# Altium footprint library LQFP.PcbLib: 57 footprints (part 1 of 4)
Each footprint in its own frame and in the unit in brackets; x right, y up, seen from the top. Pads: shape width x height; smd on the part's side, far side on the other; paste and mask are expansions set on the pad; w line width, h text height; cw(c..) or ccw(c..) is an arc to the next point about the centre after c.
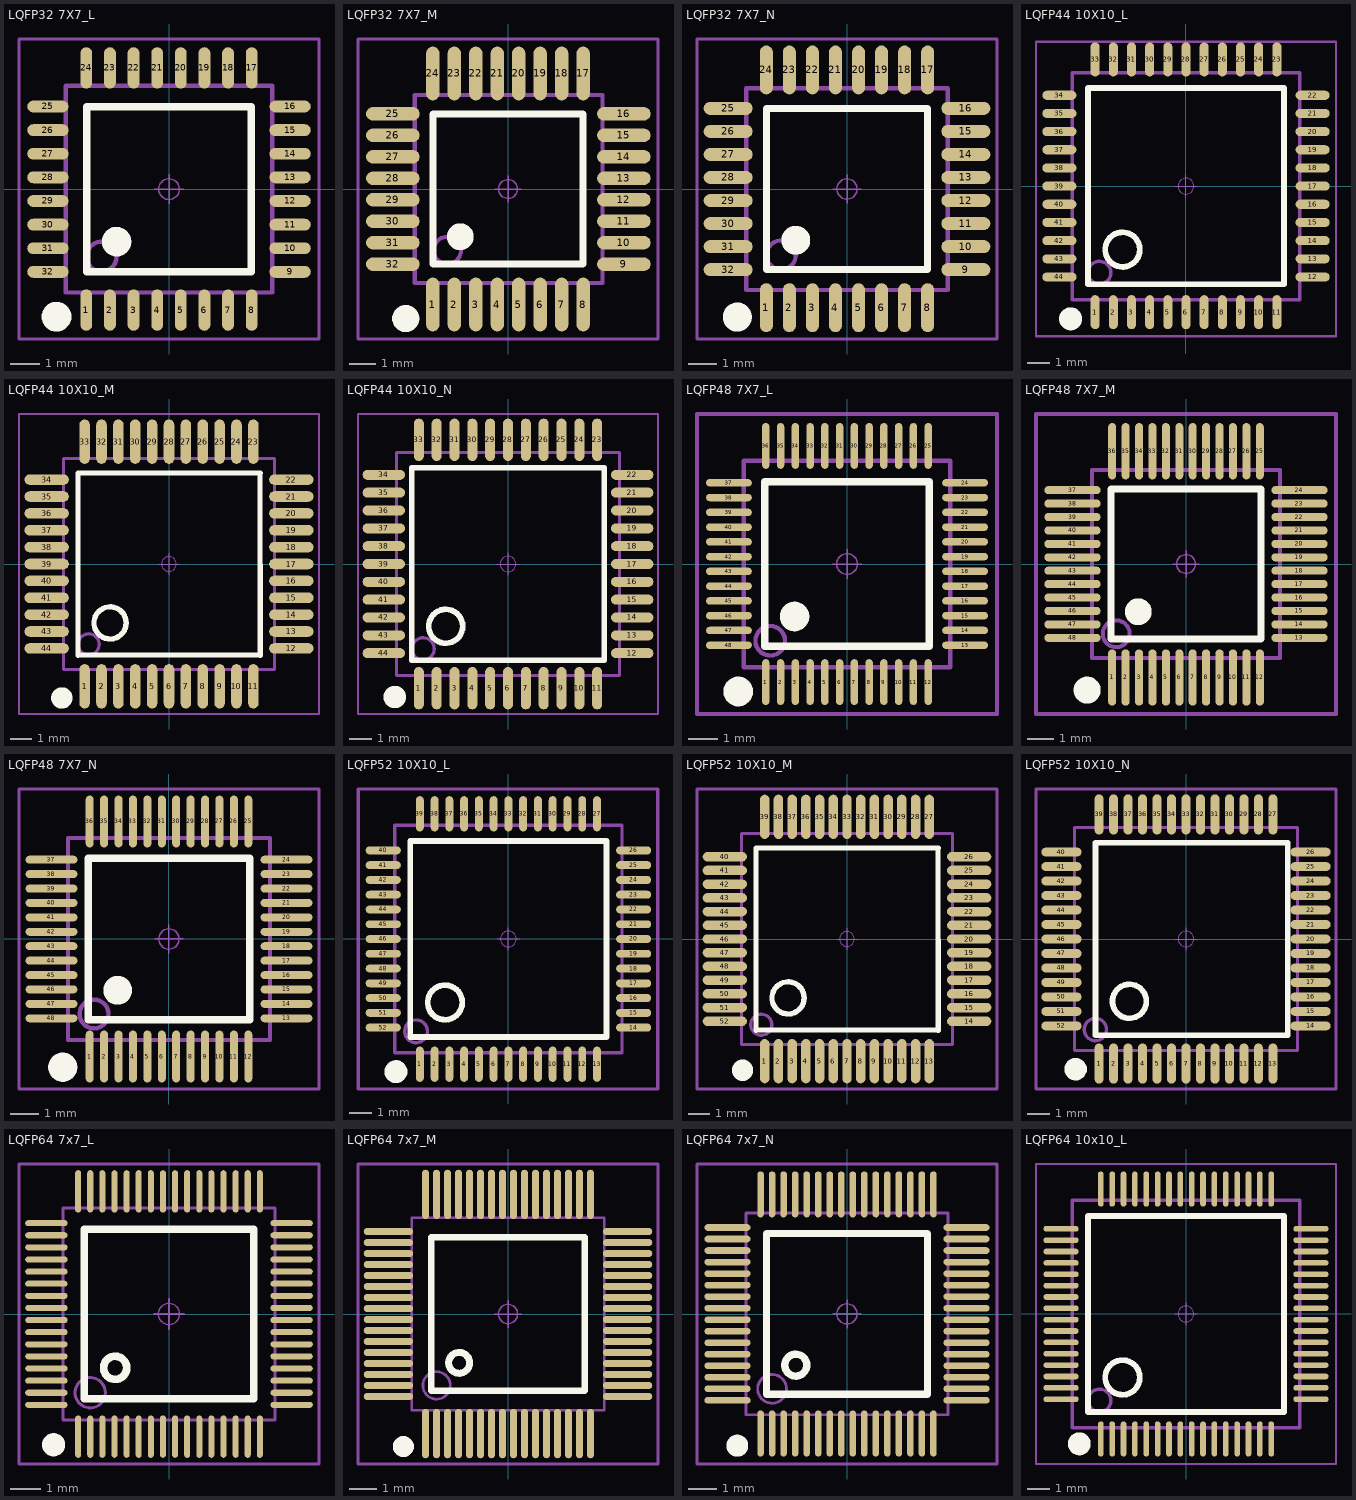
[diagram p0: the footprints below, top view; thin cyan lines are the x and y axes]

## LQFP32 7X7_L [mm] "32脚，体宽7x7mm，脚距0.8mm"
pads (32):
  oval 0.4x1.4 smd: 1(-2.8,-4.096) 2(-2,-4.096) 3(-1.2,-4.096) 4(-0.4,-4.096) 5(0.4,-4.096) 6(1.2,-4.096) 7(2,-4.096) 8(2.8,-4.096) 17(2.8,4.108) 18(2,4.108) 19(1.2,4.108) 20(0.4,4.108) 21(-0.4,4.108) 22(-1.2,4.108) 23(-2,4.108) 24(-2.8,4.108)
  oval 1.4x0.4 smd: 9(4.102,-2.8) 10(4.102,-2) 11(4.102,-1.2) 12(4.102,-0.4) 13(4.102,0.4) 14(4.102,1.2) 15(4.102,2) 16(4.102,2.8) 25(-4.102,2.8) 26(-4.102,2) 27(-4.102,1.2) 28(-4.102,0.4) 29(-4.102,-0.4) 30(-4.102,-1.2) 31(-4.102,-2) 32(-4.102,-2.8)
Top Overlay:
  circle w0.5: c-1.778,-1.778 r0.25
  circle w0.508: c-3.81,-4.318 r0.25
  lines w0.254: -2.794,-2.794 2.794,-2.794 2.794,2.794 -2.794,2.794 -2.794,-2.794
Mechanical 13:
  circle w0.15: c-2.286,-2.286 r0.508
  lines w0.15: -3.5,-3.5 -3.5,3.5 3.5,3.5 3.5,-3.5 -3.5,-3.5
Mechanical 15:
  circle w0.05: c0,0 r0.35
  lines w0.05: -0.5,0 0.5,0 ; 0,-0.5 0,0.5
  lines w0.1: -5.08,-5.074 -5.08,5.086 5.08,5.086 5.08,-5.074 -5.08,-5.074
3D body: height 1.45, standoff 0, extent -4.503,-4.503 4.503,4.503

## LQFP32 7X7_M [mm] "32脚，体宽7x7mm，脚距0.8mm"
pads (32):
  oval 0.5x2 smd: 1(-2.8,-4.303) 2(-2,-4.303) 3(-1.2,-4.303) 4(-0.4,-4.303) 5(0.4,-4.303) 6(1.2,-4.303) 7(2,-4.303) 8(2.8,-4.303) 17(2.8,4.303) 18(2,4.303) 19(1.2,4.303) 20(0.4,4.303) 21(-0.4,4.303) 22(-1.2,4.303) 23(-2,4.303) 24(-2.8,4.303)
  oval 2x0.5 smd: 9(4.317,-2.8) 10(4.317,-2) 11(4.317,-1.2) 12(4.317,-0.4) 13(4.317,0.4) 14(4.317,1.2) 15(4.317,2) 16(4.317,2.8) 25(-4.289,2.8) 26(-4.289,2) 27(-4.289,1.2) 28(-4.289,0.4) 29(-4.289,-0.4) 30(-4.289,-1.2) 31(-4.289,-2) 32(-4.289,-2.8)
Top Overlay:
  circle w0.5: c-1.778,-1.778 r0.25
  circle w0.508: c-3.81,-4.826 r0.25
  lines w0.254: -2.794,-2.794 2.794,-2.794 2.794,2.794 -2.794,2.794 -2.794,-2.794
Mechanical 13:
  circle w0.15: c-2.26,-2.286 r0.508
  lines w0.15: -3.474,-3.5 3.526,-3.5 3.526,3.5 -3.474,3.5 -3.474,-3.5
Mechanical 15:
  circle w0.05: c0,0 r0.35
  lines w0.05: -0.5,0 0.5,0 ; 0,-0.5 0,0.5
  lines w0.1: -5.588,-5.588 5.588,-5.588 5.588,5.588 -5.588,5.588 -5.588,-5.588
3D body: height 1.45, standoff 0, extent -4.503,-4.503 4.503,4.503

## LQFP32 7X7_N [mm] "32脚，体宽7x7mm，脚距0.8mm"
pads (32):
  oval 0.45x1.7 smd: 1(-2.8,-4.12) 2(-2,-4.12) 3(-1.2,-4.12) 4(-0.4,-4.12) 5(0.4,-4.12) 6(1.2,-4.12) 7(2,-4.12) 8(2.8,-4.12) 17(2.8,4.132) 18(2,4.132) 19(1.2,4.132) 20(0.4,4.132) 21(-0.4,4.132) 22(-1.2,4.132) 23(-2,4.132) 24(-2.8,4.132)
  oval 1.7x0.45 smd: 9(4.126,-2.8) 10(4.126,-2) 11(4.126,-1.2) 12(4.126,-0.4) 13(4.126,0.4) 14(4.126,1.2) 15(4.126,2) 16(4.126,2.8) 25(-4.126,2.8) 26(-4.126,2) 27(-4.126,1.2) 28(-4.126,0.4) 29(-4.126,-0.4) 30(-4.126,-1.2) 31(-4.126,-2) 32(-4.126,-2.8)
Top Overlay:
  circle w0.5: c-1.778,-1.778 r0.25
  circle w0.508: c-3.81,-4.445 r0.25
  lines w0.254: -2.794,-2.794 2.794,-2.794 2.794,2.794 -2.794,2.794 -2.794,-2.794
Mechanical 13:
  circle w0.15: c-2.286,-2.292 r0.508
  lines w0.15: -3.5,-3.506 -3.5,3.494 3.5,3.494 3.5,-3.506 -3.5,-3.506
Mechanical 15:
  circle w0.05: c0,0 r0.35
  lines w0.05: -0.5,0 0.5,0 ; 0,-0.5 0,0.5
  lines w0.1: -5.207,-5.207 -5.207,5.207 5.207,5.207 5.207,-5.207 -5.207,-5.207
3D body: height 1.45, standoff 0, extent -4.503,-4.503 4.503,4.503

## LQFP44 10X10_L [mm] "44脚，体宽10x10mm，脚距0.8mm"
pads (44):
  oval 0.4x1.5 smd: 1(-4,-5.551) 2(-3.2,-5.551) 3(-2.4,-5.551) 4(-1.6,-5.551) 5(-0.8,-5.551) 6(0,-5.551) 7(0.8,-5.551) 8(1.6,-5.551) 9(2.4,-5.551) 10(3.2,-5.551) 11(4,-5.551) 23(4,5.578) 24(3.2,5.578) 25(2.4,5.578) 26(1.6,5.578) 27(0.8,5.578) 28(0,5.578) 29(-0.8,5.578) 30(-1.6,5.578) 31(-2.4,5.578) 32(-3.2,5.578) 33(-4,5.578)
  oval 1.5x0.4 smd: 12(5.575,-4) 13(5.575,-3.2) 14(5.575,-2.4) 15(5.575,-1.6) 16(5.575,-0.8) 17(5.575,0) 18(5.575,0.8) 19(5.575,1.6) 20(5.575,2.4) 21(5.575,3.2) 22(5.575,4) 34(-5.575,4) 35(-5.575,3.2) 36(-5.575,2.4) 37(-5.575,1.6) 38(-5.575,0.8) 39(-5.575,0) 40(-5.575,-0.8) 41(-5.575,-1.6) 42(-5.575,-2.4) 43(-5.575,-3.2) 44(-5.575,-4)
Top Overlay:
  circle w0.254: c-2.794,-2.794 r0.762
  circle w0.508: c-5.08,-5.842 r0.25
  lines w0.254: -4.318,-4.318 -4.318,4.318 4.318,4.318 4.318,-4.318 -4.318,-4.318
Mechanical 13:
  circle w0.15: c-3.81,-3.81 r0.5
  lines w0.15: -5,-5 -5,5 5,5 5,-5 -5,-5
Mechanical 15:
  circle w0.05: c0,0 r0.35
  lines w0.05: -0.5,0 0.5,0 ; 0,-0.5 0,0.5
  lines w0.1: -6.604,-6.604 6.604,-6.604 6.604,6.35 -6.604,6.35 -6.604,-6.604
3D body: height 1.45, standoff 0, extent -6.003,-6.003 6.003,6.003

## LQFP44 10X10_M [mm] "44脚，体宽10x10mm，脚距0.8mm"
pads (44):
  oval 0.5x2.1 smd: 1(-4,-5.8) 2(-3.2,-5.8) 3(-2.4,-5.8) 4(-1.6,-5.8) 5(-0.8,-5.8) 6(0,-5.8) 7(0.8,-5.8) 8(1.6,-5.8) 9(2.4,-5.8) 10(3.2,-5.8) 11(4,-5.8) 23(4,5.8) 24(3.2,5.8) 25(2.4,5.8) 26(1.6,5.8) 27(0.8,5.8) 28(0,5.8) 29(-0.8,5.8) 30(-1.6,5.8) 31(-2.4,5.8) 32(-3.2,5.8) 33(-4,5.8)
  oval 2.1x0.5 smd: 12(5.8,-4) 13(5.8,-3.2) 14(5.8,-2.4) 15(5.8,-1.6) 16(5.8,-0.8) 17(5.8,0) 18(5.8,0.8) 19(5.8,1.6) 20(5.8,2.4) 21(5.8,3.2) 22(5.8,4) 34(-5.8,4) 35(-5.8,3.2) 36(-5.8,2.4) 37(-5.8,1.6) 38(-5.8,0.8) 39(-5.8,0) 40(-5.8,-0.8) 41(-5.8,-1.6) 42(-5.8,-2.4) 43(-5.8,-3.2) 44(-5.8,-4)
Top Overlay:
  circle w0.254: c-2.794,-2.794 r0.762
  circle w0.508: c-5.08,-6.35 r0.25
  lines w0.254: -4.318,-4.318 4.318,-4.318 4.318,4.318 -4.318,4.318 -4.318,-4.318
Mechanical 13:
  circle w0.15: c-3.81,-3.81 r0.5
  lines w0.15: -5,-5 5,-5 5,5 -5,5 -5,-5
Mechanical 15:
  circle w0.05: c0,0 r0.35
  lines w0.05: -0.5,0 0.5,0 ; 0,-0.5 0,0.5
  lines w0.1: -7.112,-7.112 7.112,-7.112 7.112,7.112 -7.112,7.112 -7.112,-7.112
3D body: height 1.45, standoff 0, extent -6.003,-6.003 6.003,6.003

## LQFP44 10X10_N [mm] "44脚，体宽10x10mm，脚距0.8mm"
pads (44):
  oval 0.45x1.9 smd: 1(-4,-5.575) 2(-3.2,-5.575) 3(-2.4,-5.575) 4(-1.6,-5.575) 5(-0.8,-5.575) 6(0,-5.575) 7(0.8,-5.575) 8(1.6,-5.575) 9(2.4,-5.575) 10(3.2,-5.575) 11(4,-5.575) 23(4,5.575) 24(3.2,5.575) 25(2.4,5.575) 26(1.6,5.575) 27(0.8,5.575) 28(0,5.575) 29(-0.8,5.575) 30(-1.6,5.575) 31(-2.4,5.575) 32(-3.2,5.575) 33(-4,5.575)
  oval 1.9x0.45 smd: 12(5.575,-4) 13(5.575,-3.2) 14(5.575,-2.4) 15(5.575,-1.6) 16(5.575,-0.8) 17(5.575,0) 18(5.575,0.8) 19(5.575,1.6) 20(5.575,2.4) 21(5.575,3.2) 22(5.575,4) 34(-5.575,4) 35(-5.575,3.2) 36(-5.575,2.4) 37(-5.575,1.6) 38(-5.575,0.8) 39(-5.575,0) 40(-5.575,-0.8) 41(-5.575,-1.6) 42(-5.575,-2.4) 43(-5.575,-3.2) 44(-5.575,-4)
Top Overlay:
  circle w0.254: c-2.794,-2.794 r0.762
  circle w0.508: c-5.08,-5.969 r0.25
  lines w0.254: -4.318,-4.318 -4.318,4.318 4.318,4.318 4.318,-4.318 -4.318,-4.318
Mechanical 13:
  circle w0.15: c-3.81,-3.81 r0.5
  lines w0.15: -5,-5 5,-5 5,5 -5,5 -5,-5
Mechanical 15:
  circle w0.05: c0,0 r0.35
  lines w0.05: -0.5,0 0.5,0 ; 0,-0.5 0,0.5
  lines w0.1: -6.731,-6.731 6.731,-6.731 6.731,6.731 -6.731,6.731 -6.731,-6.731
3D body: height 1.45, standoff 0, extent -6.003,-6.003 6.003,6.003

## LQFP48 7X7_L [mm] "48脚，体宽7x7mm，脚距0.5mm"
height 1.6
pads (48):
  oval 0.25x1.55 smd: 1(-2.75,-4) 2(-2.25,-4) 3(-1.75,-4) 4(-1.25,-4) 5(-0.75,-4) 6(-0.25,-4) 7(0.25,-4) 8(0.75,-4) 9(1.25,-4) 10(1.75,-4) 11(2.25,-4) 12(2.75,-4) 25(2.75,4) 26(2.25,4) 27(1.75,4) 28(1.25,4) 29(0.75,4) 30(0.25,4) 31(-0.25,4) 32(-0.75,4) 33(-1.25,4) 34(-1.75,4) 35(-2.25,4) 36(-2.75,4)
  oval 1.55x0.25 smd: 13(4,-2.75) 14(4,-2.25) 15(4,-1.75) 16(4,-1.25) 17(4,-0.75) 18(4,-0.25) 19(4,0.25) 20(4,0.75) 21(4,1.25) 22(4,1.75) 23(4,2.25) 24(4,2.75) 37(-4,2.75) 38(-4,2.25) 39(-4,1.75) 40(-4,1.25) 41(-4,0.75) 42(-4,0.25) 43(-4,-0.25) 44(-4,-0.75) 45(-4,-1.25) 46(-4,-1.75) 47(-4,-2.25) 48(-4,-2.75)
Top Overlay:
  circle w0.508: c-3.683,-4.318 r0.25
  circle w0.5: c-1.778,-1.778 r0.25
  lines w0.254: -2.794,-2.794 -2.794,2.794 2.794,2.794 2.794,-2.794 -2.794,-2.794
Mechanical 13:
  circle w0.15: c-2.6,-2.6 r0.5
  lines w0.15: -3.5,-3.5 -3.5,3.5 3.5,3.5 3.5,-3.5 -3.5,-3.5
Mechanical 15:
  circle w0.05: c0,0 r0.35
  lines w0.05: -0.5,0 0.5,0 ; 0,-0.5 0,0.5
  lines w0.15: -5.08,-5.08 -5.08,5.08 5.08,5.08 5.08,-5.08 -5.08,-5.08
3D body: height 1.45, standoff 0, extent -4.503,-4.503 4.503,4.503

## LQFP48 7X7_M [mm] "48脚，体宽7x7mm，脚距0.5mm"
height 1.6
pads (48):
  oval 0.3x2.1 smd: 1(-2.75,-4.227) 2(-2.25,-4.227) 3(-1.75,-4.227) 4(-1.25,-4.227) 5(-0.75,-4.227) 6(-0.25,-4.227) 7(0.25,-4.227) 8(0.75,-4.227) 9(1.25,-4.227) 10(1.75,-4.227) 11(2.25,-4.227) 12(2.75,-4.227) 25(2.75,4.202) 26(2.25,4.202) 27(1.75,4.202) 28(1.25,4.202) 29(0.75,4.202) 30(0.25,4.202) 31(-0.25,4.202) 32(-0.75,4.202) 33(-1.25,4.202) 34(-1.75,4.202) 35(-2.25,4.202) 36(-2.75,4.202)
  oval 2.1x0.3 smd: 13(4.227,-2.75) 14(4.227,-2.25) 15(4.227,-1.75) 16(4.227,-1.25) 17(4.227,-0.75) 18(4.227,-0.25) 19(4.227,0.25) 20(4.227,0.75) 21(4.227,1.25) 22(4.227,1.75) 23(4.227,2.25) 24(4.227,2.75) 37(-4.227,2.75) 38(-4.227,2.25) 39(-4.227,1.75) 40(-4.227,1.25) 41(-4.227,0.75) 42(-4.227,0.25) 43(-4.227,-0.25) 44(-4.227,-0.75) 45(-4.227,-1.25) 46(-4.227,-1.75) 47(-4.227,-2.25) 48(-4.227,-2.75)
Top Overlay:
  circle w0.5: c-1.778,-1.778 r0.25
  circle w0.508: c-3.683,-4.699 r0.25
  lines w0.254: -2.794,-2.794 2.794,-2.794 2.794,2.794 -2.794,2.794 -2.794,-2.794
Mechanical 13:
  circle w0.15: c-2.6,-2.6 r0.5
  lines w0.15: -3.5,-3.5 -3.5,3.5 3.5,3.5 3.5,-3.5 -3.5,-3.5
Mechanical 15:
  circle w0.05: c0,0 r0.35
  lines w0.05: -0.5,0 0.5,0 ; 0,-0.5 0,0.5
  lines w0.15: -5.588,-5.588 -5.588,5.588 5.588,5.588 5.588,-5.588 -5.588,-5.588
3D body: height 1.45, standoff 0, extent -4.503,-4.503 4.503,4.503

## LQFP48 7X7_N [mm] "48脚，体宽7x7mm，脚距0.5mm"
height 1.6
pads (48):
  oval 0.279x1.8 smd: 1(-2.75,-4.075) 2(-2.25,-4.075) 3(-1.75,-4.075) 4(-1.25,-4.075) 5(-0.75,-4.075) 6(-0.25,-4.075) 7(0.25,-4.075) 8(0.75,-4.075) 9(1.25,-4.075) 10(1.75,-4.075) 11(2.25,-4.075) 12(2.75,-4.075) 25(2.75,4.075) 26(2.25,4.075) 27(1.75,4.075) 28(1.25,4.075) 29(0.75,4.075) 30(0.25,4.075) 31(-0.25,4.075) 32(-0.75,4.075) 33(-1.25,4.075) 34(-1.75,4.075) 35(-2.25,4.075) 36(-2.75,4.075)
  oval 1.8x0.279 smd: 13(4.075,-2.75) 14(4.075,-2.25) 15(4.075,-1.75) 16(4.075,-1.25) 17(4.075,-0.75) 18(4.075,-0.25) 19(4.075,0.25) 20(4.075,0.75) 21(4.075,1.25) 22(4.075,1.75) 23(4.075,2.25) 24(4.075,2.75) 37(-4.075,2.75) 38(-4.075,2.25) 39(-4.075,1.75) 40(-4.075,1.25) 41(-4.075,0.75) 42(-4.075,0.25) 43(-4.075,-0.25) 44(-4.075,-0.75) 45(-4.075,-1.25) 46(-4.075,-1.75) 47(-4.075,-2.25) 48(-4.075,-2.75)
Top Overlay:
  circle w0.508: c-3.683,-4.445 r0.25
  circle w0.5: c-1.778,-1.778 r0.25
  lines w0.254: -2.794,-2.794 -2.794,2.794 2.794,2.794 2.794,-2.794 -2.794,-2.794
Mechanical 13:
  circle w0.15: c-2.6,-2.6 r0.5
  lines w0.15: -3.5,-3.5 3.5,-3.5 3.5,3.5 -3.5,3.5 -3.5,-3.5
Mechanical 15:
  circle w0.05: c0,0 r0.35
  lines w0.05: -0.5,0 0.5,0 ; 0,-0.5 0,0.5
  lines w0.1: -5.2,-5.2 -5.2,5.2 5.2,5.2 5.2,-5.2 -5.2,-5.2
3D body: height 1.45, standoff 0, extent -4.503,-4.503 4.503,4.503

## LQFP52 10X10_L [mm] "52脚，体宽10x10mm，脚距0.65mm"
height 1.6
pads (52):
  oval 0.35x1.55 smd: 1(-3.9,-5.512) 2(-3.25,-5.512) 3(-2.6,-5.512) 4(-1.95,-5.512) 5(-1.3,-5.512) 6(-0.65,-5.512) 7(0,-5.512) 8(0.65,-5.512) 9(1.3,-5.512) 10(1.95,-5.512) 11(2.6,-5.512) 12(3.25,-5.512) 13(3.9,-5.512) 27(3.9,5.512) 28(3.25,5.512) 29(2.6,5.512) 30(1.95,5.512) 31(1.3,5.512) 32(0.65,5.512) 33(0,5.512) 34(-0.65,5.512) 35(-1.3,5.512) 36(-1.95,5.512) 37(-2.6,5.512) 38(-3.25,5.512) 39(-3.9,5.512)
  oval 1.55x0.35 smd: 14(5.512,-3.9) 15(5.512,-3.25) 16(5.512,-2.6) 17(5.512,-1.95) 18(5.512,-1.3) 19(5.512,-0.65) 20(5.512,0) 21(5.512,0.65) 22(5.512,1.3) 23(5.512,1.95) 24(5.512,2.6) 25(5.512,3.25) 26(5.512,3.9) 40(-5.512,3.9) 41(-5.512,3.25) 42(-5.512,2.6) 43(-5.512,1.95) 44(-5.512,1.3) 45(-5.512,0.65) 46(-5.512,0) 47(-5.512,-0.65) 48(-5.512,-1.3) 49(-5.512,-1.95) 50(-5.512,-2.6) 51(-5.512,-3.25) 52(-5.512,-3.9)
Top Overlay:
  circle w0.254: c-2.794,-2.794 r0.762
  circle w0.508: c-4.953,-5.842 r0.25
  lines w0.254: -4.318,-4.318 -4.318,4.318 4.318,4.318 4.318,-4.318 -4.318,-4.318
Mechanical 13:
  circle w0.15: c-4.064,-4.064 r0.5
  lines w0.15: -5,-5 5,-5 5,5 -5,5 -5,-5
Mechanical 15:
  circle w0.05: c0,0 r0.35
  lines w0.05: -0.5,0 0.5,0 ; 0,-0.5 0,0.5
  lines w0.15: -6.604,-6.604 6.567,-6.604 6.567,6.604 -6.604,6.604 -6.604,-6.604
3D body: height 1.45, standoff -0.01, extent -6.003,-6.003 6.003,6.003

## LQFP52 10X10_M [mm] "52脚，体宽10x10mm，脚距0.65mm"
height 1.6
pads (52):
  oval 0.45x2.1 smd: 1(-3.9,-5.791) 2(-3.25,-5.791) 3(-2.6,-5.791) 4(-1.95,-5.791) 5(-1.3,-5.791) 6(-0.65,-5.791) 7(0,-5.791) 8(0.65,-5.791) 9(1.3,-5.791) 10(1.95,-5.791) 11(2.6,-5.791) 12(3.25,-5.791) 13(3.9,-5.791) 27(3.9,5.791) 28(3.25,5.791) 29(2.6,5.791) 30(1.95,5.791) 31(1.3,5.791) 32(0.65,5.791) 33(0,5.791) 34(-0.65,5.791) 35(-1.3,5.791) 36(-1.95,5.791) 37(-2.6,5.791) 38(-3.25,5.791) 39(-3.9,5.791)
  oval 2.1x0.45 smd: 14(5.791,-3.9) 15(5.791,-3.25) 16(5.791,-2.6) 17(5.791,-1.95) 18(5.791,-1.3) 19(5.791,-0.65) 20(5.791,0) 21(5.791,0.65) 22(5.791,1.3) 23(5.791,1.95) 24(5.791,2.6) 25(5.791,3.25) 26(5.791,3.9) 40(-5.791,3.9) 41(-5.791,3.25) 42(-5.791,2.6) 43(-5.791,1.95) 44(-5.791,1.3) 45(-5.791,0.65) 46(-5.791,0) 47(-5.791,-0.65) 48(-5.791,-1.3) 49(-5.791,-1.95) 50(-5.791,-2.6) 51(-5.791,-3.25) 52(-5.791,-3.9)
Top Overlay:
  circle w0.508: c-4.953,-6.223 r0.25
  circle w0.254: c-2.794,-2.794 r0.762
  lines w0.254: -4.318,-4.318 4.318,-4.318 4.318,4.318 -4.318,4.318 -4.318,-4.318
Mechanical 13:
  circle w0.15: c-4.064,-4.064 r0.5
  lines w0.15: -5,-5 5,-5 5,5 -5,5 -5,-5
Mechanical 15:
  circle w0.05: c0,0 r0.35
  lines w0.05: -0.5,0 0.5,0 ; 0,-0.5 0,0.5
  lines w0.15: -7.112,-7.112 7.112,-7.112 7.112,7.112 -7.112,7.112 -7.112,-7.112
3D body: height 1.45, standoff -0.01, extent -6.003,-6.003 6.003,6.003

## LQFP52 10X10_N [mm] "52脚，体宽10x10mm，脚距0.65mm"
height 1.6
pads (52):
  oval 0.4x1.8 smd: 1(-3.9,-5.588) 2(-3.25,-5.588) 3(-2.6,-5.588) 4(-1.95,-5.588) 5(-1.3,-5.588) 6(-0.65,-5.588) 7(0,-5.588) 8(0.65,-5.588) 9(1.3,-5.588) 10(1.95,-5.588) 11(2.6,-5.588) 12(3.25,-5.588) 13(3.9,-5.588) 27(3.9,5.588) 28(3.25,5.588) 29(2.6,5.588) 30(1.95,5.588) 31(1.3,5.588) 32(0.65,5.588) 33(0,5.588) 34(-0.65,5.588) 35(-1.3,5.588) 36(-1.95,5.588) 37(-2.6,5.588) 38(-3.25,5.588) 39(-3.9,5.588)
  oval 1.8x0.4 smd: 14(5.588,-3.9) 15(5.588,-3.25) 16(5.588,-2.6) 17(5.588,-1.95) 18(5.588,-1.3) 19(5.588,-0.65) 20(5.588,0) 21(5.588,0.65) 22(5.588,1.3) 23(5.588,1.95) 24(5.588,2.6) 25(5.588,3.25) 26(5.588,3.9) 40(-5.588,3.9) 41(-5.588,3.25) 42(-5.588,2.6) 43(-5.588,1.95) 44(-5.588,1.3) 45(-5.588,0.65) 46(-5.588,0) 47(-5.588,-0.65) 48(-5.588,-1.3) 49(-5.588,-1.95) 50(-5.588,-2.6) 51(-5.588,-3.25) 52(-5.588,-3.9)
Top Overlay:
  circle w0.508: c-4.953,-5.842 r0.25
  circle w0.254: c-2.54,-2.794 r0.762
  lines w0.254: -4.064,-4.318 4.572,-4.318 4.572,4.318 -4.064,4.318 -4.064,-4.318
Mechanical 13:
  circle w0.15: c-4.064,-4.064 r0.5
  lines w0.15: -5,-5 5,-5 5,5 -5,5 -5,-5
Mechanical 15:
  circle w0.05: c0,0 r0.35
  lines w0.05: -0.5,0 0.5,0 ; 0,-0.5 0,0.5
  lines w0.15: -6.731,-6.731 6.731,-6.731 6.731,6.731 -6.731,6.731 -6.731,-6.731
3D body: height 1.45, standoff -0.01, extent -6.003,-6.003 6.003,6.003

## LQFP64 7x7_L [mm] "64脚，体宽：7x7mm, 脚距：0.4mm"
pads (64):
  oval 0.2x1.4 smd: 1(-3,-4.048) 2(-2.6,-4.048) 3(-2.2,-4.048) 4(-1.8,-4.048) 5(-1.4,-4.048) 6(-1,-4.048) 7(-0.6,-4.048) 8(-0.2,-4.048) 9(0.2,-4.048) 10(0.6,-4.048) 11(1,-4.048) 12(1.4,-4.048) 13(1.8,-4.048) 14(2.2,-4.048) 15(2.6,-4.048) 16(3,-4.048) 33(3,4.048) 34(2.6,4.048) 35(2.2,4.048) 36(1.8,4.048) 37(1.4,4.048) 38(1,4.048) 39(0.6,4.048) 40(0.2,4.048) 41(-0.2,4.048) 42(-0.6,4.048) 43(-1,4.048) 44(-1.4,4.048) 45(-1.8,4.048) 46(-2.2,4.048) 47(-2.6,4.048) 48(-3,4.048)
  oval 1.4x0.2 smd: 17(4.048,-3) 18(4.048,-2.6) 19(4.048,-2.2) 20(4.048,-1.8) 21(4.048,-1.4) 22(4.048,-1) 23(4.048,-0.6) 24(4.048,-0.2) 25(4.048,0.2) 26(4.048,0.6) 27(4.048,1) 28(4.048,1.4) 29(4.048,1.8) 30(4.048,2.2) 31(4.048,2.6) 32(4.048,3) 49(-4.048,3) 50(-4.048,2.6) 51(-4.048,2.2) 52(-4.048,1.8) 53(-4.048,1.4) 54(-4.048,1) 55(-4.048,0.6) 56(-4.048,0.2) 57(-4.048,-0.2) 58(-4.048,-0.6) 59(-4.048,-1) 60(-4.048,-1.4) 61(-4.048,-1.8) 62(-4.048,-2.2) 63(-4.048,-2.6) 64(-4.048,-3)
Top Overlay:
  circle w0.254: c-1.778,-1.778 r0.381
  circle w0.508: c-3.81,-4.318 r0.127
  lines w0.254: -2.794,-2.794 2.794,-2.794 2.794,2.794 -2.794,2.794 -2.794,-2.794
Mechanical 13:
  circle w0.1: c-2.6,-2.6 r0.5
  lines w0.1: -3.5,-3.5 3.5,-3.5 3.5,3.5 -3.5,3.5 -3.5,-3.5
Mechanical 15:
  circle w0.05: c0,0 r0.35
  lines w0.05: -0.5,0 0.5,0 ; 0,-0.5 0,0.5
  lines w0.1: -4.953,-4.953 -4.953,4.953 4.953,4.953 4.953,-4.953 -4.953,-4.953
3D body: height 1.45, standoff 0, extent -4.503,-4.503 4.503,4.503

## LQFP64 7x7_M [mm] "64脚，体宽：7x7mm, 脚距：0.4mm"
pads (64):
  oval 0.26x1.8 smd: 1(-3,-4.352) 2(-2.6,-4.352) 3(-2.2,-4.352) 4(-1.8,-4.352) 5(-1.4,-4.352) 6(-1,-4.352) 7(-0.6,-4.352) 8(-0.2,-4.352) 9(0.2,-4.352) 10(0.6,-4.352) 11(1,-4.352) 12(1.4,-4.352) 13(1.8,-4.352) 14(2.2,-4.352) 15(2.6,-4.352) 16(3,-4.352) 33(3,4.352) 34(2.6,4.352) 35(2.2,4.352) 36(1.8,4.352) 37(1.4,4.352) 38(1,4.352) 39(0.6,4.352) 40(0.2,4.352) 41(-0.2,4.352) 42(-0.6,4.352) 43(-1,4.352) 44(-1.4,4.352) 45(-1.8,4.352) 46(-2.2,4.352) 47(-2.6,4.352) 48(-3,4.352)
  oval 1.8x0.26 smd: 17(4.352,-3) 18(4.352,-2.6) 19(4.352,-2.2) 20(4.352,-1.8) 21(4.352,-1.4) 22(4.352,-1) 23(4.352,-0.6) 24(4.352,-0.2) 25(4.352,0.2) 26(4.352,0.6) 27(4.352,1) 28(4.352,1.4) 29(4.352,1.8) 30(4.352,2.2) 31(4.352,2.6) 32(4.352,3) 49(-4.352,3) 50(-4.352,2.6) 51(-4.352,2.2) 52(-4.352,1.8) 53(-4.352,1.4) 54(-4.352,1) 55(-4.352,0.6) 56(-4.352,0.2) 57(-4.352,-0.2) 58(-4.352,-0.6) 59(-4.352,-1) 60(-4.352,-1.4) 61(-4.352,-1.8) 62(-4.352,-2.2) 63(-4.352,-2.6) 64(-4.352,-3)
Top Overlay:
  circle w0.254: c-1.778,-1.778 r0.381
  circle w0.508: c-3.81,-4.826 r0.127
  lines w0.254: -2.794,-2.794 2.794,-2.794 2.794,2.794 -2.794,2.794 -2.794,-2.794
Mechanical 13:
  circle w0.1: c-2.6,-2.6 r0.5
  lines w0.1: -3.5,-3.5 3.5,-3.5 3.5,3.5 -3.5,3.5 -3.5,-3.5
Mechanical 15:
  circle w0.05: c0,0 r0.35
  lines w0.05: -0.5,0 0.5,0 ; 0,-0.5 0,0.5
  lines w0.1: -5.461,-5.461 -5.461,5.461 5.461,5.461 5.461,-5.461 -5.461,-5.461
3D body: height 1.45, standoff 0, extent -4.503,-4.503 4.503,4.503

## LQFP64 7x7_N [mm] "64脚，体宽：7x7mm, 脚距：0.4mm"
pads (64):
  oval 0.23x1.6 smd: 1(-3,-4.146) 2(-2.6,-4.146) 3(-2.2,-4.146) 4(-1.8,-4.146) 5(-1.4,-4.146) 6(-1,-4.146) 7(-0.6,-4.146) 8(-0.2,-4.146) 9(0.2,-4.146) 10(0.6,-4.146) 11(1,-4.146) 12(1.4,-4.146) 13(1.8,-4.146) 14(2.2,-4.146) 15(2.6,-4.146) 16(3,-4.146) 33(3,4.152) 34(2.6,4.152) 35(2.2,4.152) 36(1.8,4.152) 37(1.4,4.152) 38(1,4.152) 39(0.6,4.152) 40(0.2,4.152) 41(-0.2,4.152) 42(-0.6,4.152) 43(-1,4.152) 44(-1.4,4.152) 45(-1.8,4.152) 46(-2.2,4.152) 47(-2.6,4.152) 48(-3,4.152)
  oval 1.6x0.23 smd: 17(4.149,-2.997) 18(4.149,-2.597) 19(4.149,-2.197) 20(4.149,-1.797) 21(4.149,-1.397) 22(4.149,-0.997) 23(4.149,-0.597) 24(4.149,-0.197) 25(4.149,0.203) 26(4.149,0.603) 27(4.149,1.003) 28(4.149,1.403) 29(4.149,1.803) 30(4.149,2.203) 31(4.149,2.603) 32(4.149,3.003) 49(-4.149,3.003) 50(-4.149,2.603) 51(-4.149,2.203) 52(-4.149,1.803) 53(-4.149,1.403) 54(-4.149,1.003) 55(-4.149,0.603) 56(-4.149,0.203) 57(-4.149,-0.197) 58(-4.149,-0.597) 59(-4.149,-0.997) 60(-4.149,-1.397) 61(-4.149,-1.797) 62(-4.149,-2.197) 63(-4.149,-2.597) 64(-4.149,-2.997)
Top Overlay:
  circle w0.508: c-3.81,-4.572 r0.127
  circle w0.254: c-1.778,-1.775 r0.381
  lines w0.254: -2.794,-2.791 -2.794,2.797 2.794,2.797 2.794,-2.791 -2.794,-2.791
Mechanical 13:
  circle w0.1: c-2.6,-2.597 r0.5
  lines w0.1: -3.5,-3.497 -3.5,3.503 3.5,3.503 3.5,-3.497 -3.5,-3.497
Mechanical 15:
  circle w0.05: c0,0.003 r0.35
  lines w0.05: -0.5,0.003 0.5,0.003 ; 0,-0.497 0,0.503
  lines w0.1: -5.207,-5.207 5.207,-5.207 5.207,5.207 -5.207,5.207 -5.207,-5.207
3D body: height 1.45, standoff 0, extent -4.503,-4.5 4.503,4.506

## LQFP64 10x10_L [mm] "64脚，体宽10x10mm，脚距0.5mm"
height 1.6
pads (64):
  oval 0.25x1.55 smd: 1(-3.75,-5.5) 2(-3.25,-5.5) 3(-2.75,-5.5) 4(-2.25,-5.5) 5(-1.75,-5.5) 6(-1.25,-5.5) 7(-0.75,-5.5) 8(-0.25,-5.5) 9(0.25,-5.5) 10(0.75,-5.5) 11(1.25,-5.5) 12(1.75,-5.5) 13(2.25,-5.5) 14(2.75,-5.5) 15(3.25,-5.5) 16(3.75,-5.5) 33(3.75,5.5) 34(3.25,5.5) 35(2.75,5.5) 36(2.25,5.5) 37(1.75,5.5) 38(1.25,5.5) 39(0.75,5.5) 40(0.25,5.5) 41(-0.25,5.5) 42(-0.75,5.5) 43(-1.25,5.5) 44(-1.75,5.5) 45(-2.25,5.5) 46(-2.75,5.5) 47(-3.25,5.5) 48(-3.75,5.5)
  oval 1.55x0.25 smd: 17(5.5,-3.75) 18(5.5,-3.25) 19(5.5,-2.75) 20(5.5,-2.25) 21(5.5,-1.75) 22(5.5,-1.25) 23(5.5,-0.75) 24(5.5,-0.25) 25(5.5,0.25) 26(5.5,0.75) 27(5.5,1.25) 28(5.5,1.75) 29(5.5,2.25) 30(5.5,2.75) 31(5.5,3.25) 32(5.5,3.75) 49(-5.499,3.75) 50(-5.499,3.25) 51(-5.499,2.75) 52(-5.499,2.25) 53(-5.499,1.75) 54(-5.499,1.25) 55(-5.499,0.75) 56(-5.499,0.25) 57(-5.499,-0.25) 58(-5.499,-0.75) 59(-5.499,-1.25) 60(-5.499,-1.75) 61(-5.499,-2.25) 62(-5.499,-2.75) 63(-5.499,-3.25) 64(-5.499,-3.75)
Top Overlay:
  circle w0.254: c-2.794,-2.794 r0.762
  circle w0.508: c-4.699,-5.715 r0.25
  lines w0.254: -4.318,-4.318 -4.318,4.318 4.318,4.318 4.318,-4.318 -4.318,-4.318
Mechanical 13:
  circle w0.15: c-3.81,-3.81 r0.5
  lines w0.15: -5,-5 -5,5 5,5 5,-5 -5,-5
Mechanical 15:
  circle w0.05: c0,0 r0.35
  lines w0.05: -0.5,0 0.5,0 ; 0,-0.5 0,0.5
  lines w0.1: -6.604,-6.604 -6.604,6.604 6.604,6.604 6.604,-6.604 -6.604,-6.604
3D body: height 1.45, standoff -0.01, extent -6.003,-6.003 6.003,6.003